# EAGLE library part HMC5883 (library ModernDevice.l#1)
HMC 5883 Honeywell Digital Compass
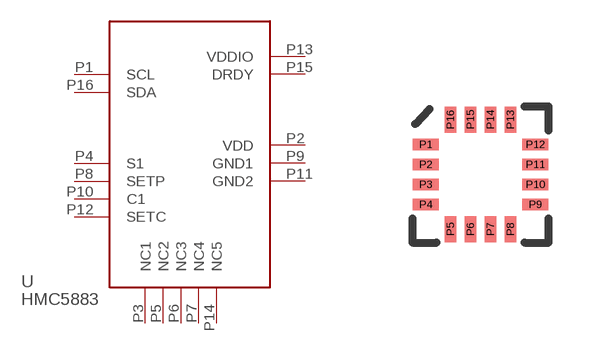
[diagram p26: symbol with the pads of 16LPCC; footprint 16LPCC]

Designator prefix -

## HMC5883HMC5883  [16LPCC]
P1  SCL
P2  VDD
P3  NC1
P4  S1
P5  NC2
P6  NC3
P7  NC4
P8  SETP
P9  GND1
P10  C1
P11  GND2
P12  SETC
P13  VDDIO
P14  NC5
P15  DRDY
P16  SDA

## Footprint 16LPCC (pad centres in mm)
smd 0.65 x 0.28: P1 -1.37,0.75; P2 -1.37,0.25; P3 -1.37,-0.25; P4 -1.37,-0.75; P9 1.37,-0.75; P10 1.37,-0.25; P11 1.37,0.25; P12 1.37,0.75
smd 0.28 x 0.65: P5 -0.75,-1.37; P6 -0.25,-1.37; P7 0.25,-1.37; P8 0.75,-1.37; P13 0.75,1.37; P14 0.25,1.37; P15 -0.25,1.37; P16 -0.75,1.37